# EAGLE library part D-DUINO-32_V3 (library breakout)
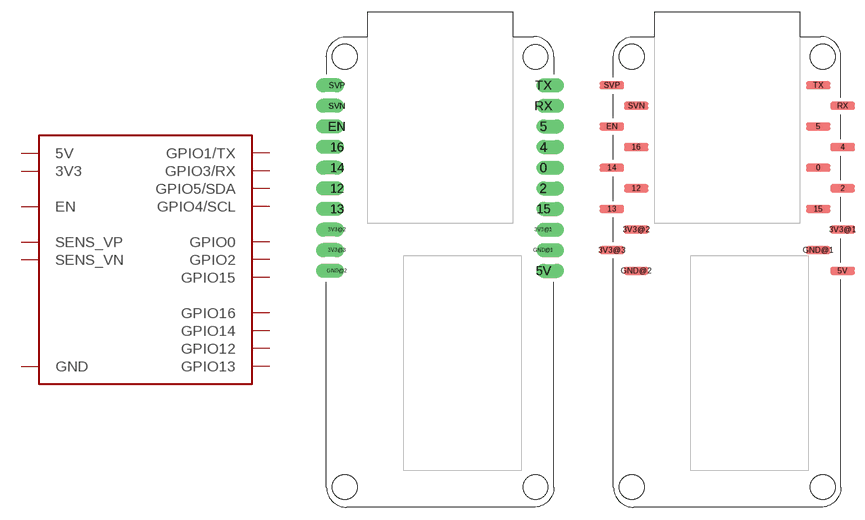
[diagram p1: symbol with the pads of D-DUINO-32_V3; footprints D-DUINO-32_V3, D-DUINO-32_V3_SMD]

Designator prefix U

## D-DUINO-32_V3  [D-DUINO-32_V3]
0  GPIO0
2  GPIO2
3V3@1  3V3  pwr
3V3@2  3V3  pwr
3V3@3  3V3  pwr
4  GPIO4/SCL
5  GPIO5/SDA
5V  5V  pwr
12  GPIO12
13  GPIO13
14  GPIO14
15  GPIO15
16  GPIO16
EN  EN  in
GND@1  GND  pwr
GND@2  GND  pwr
RX  GPIO3/RX  in
SVN  SENS_VN  in
SVP  SENS_VP  in
TX  GPIO1/TX  out

## D-DUINO-32_V3_SMD  [D-DUINO-32_V3_SMD]
Pads as for D-DUINO-32_V3

## Footprint D-DUINO-32_V3 (pad centres in mm)
drill 1 pad 1.7 offset: 0 12.7,12.84; 2 12.7,10.3; 3V3@1 12.7,5.22; 3V3@2 -12.7,5.22; 3V3@3 -12.7,2.68; 4 12.7,15.38; 5 12.7,17.92; 5V 12.7,0.14; 12 -12.7,10.3; 13 -12.7,7.76; 14 -12.7,12.84; 15 12.7,7.76; 16 -12.7,15.38; EN -12.7,17.92; GND@1 12.7,2.68; GND@2 -12.7,0.14; RX 12.7,20.46; SVN -12.7,20.46; SVP -12.7,23; TX 12.7,23

## Footprint D-DUINO-32_V3_SMD (pad centres in mm)
smd 3 x 1: 0 11.2,12.84; 2 14.2,10.3; 3V3@1 14.2,5.22; 3V3@2 -11.2,5.22; 3V3@3 -14.2,2.68; 4 14.2,15.38; 5 11.2,17.92; 5V 14.2,0.14; 12 -11.2,10.3; 13 -14.2,7.76; 14 -14.2,12.84; 15 11.2,7.76; 16 -11.2,15.38; EN -14.2,17.92; GND@1 11.2,2.68; GND@2 -11.2,0.14; RX 14.2,20.46; SVN -11.2,20.46; SVP -14.2,23; TX 11.2,23